# Altium footprint library KEYSTONE_1042.PcbLib: 1 footprints
Each footprint in its own frame and in the unit in brackets; x right, y up, seen from the top. Pads: shape width x height; smd on the part's side, far side on the other; paste and mask are expansions set on the pad; w line width, h text height; cw(c..) or ccw(c..) is an arc to the next point about the centre after c.
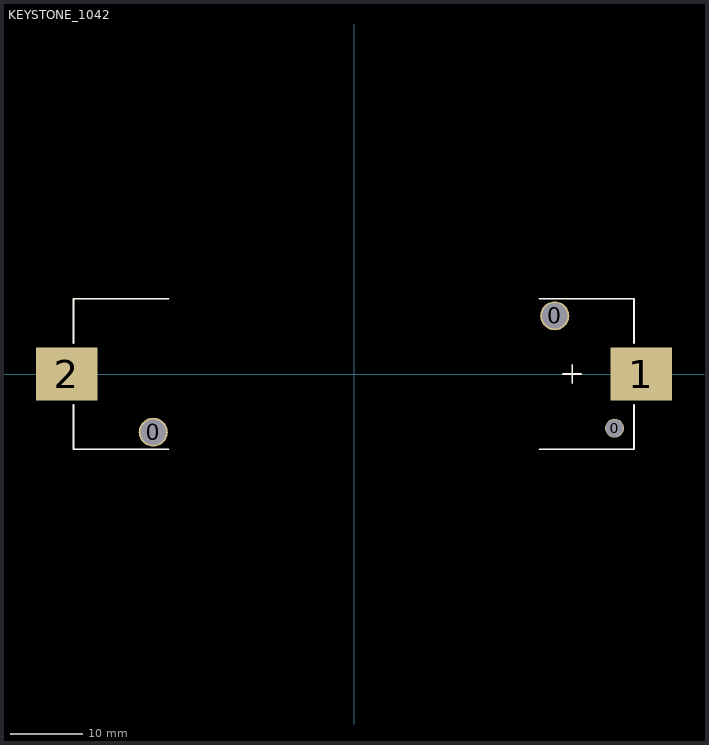
[diagram p0: the footprint, top view; thin cyan lines are the x and y axes]

## KEYSTONE_1042 [mm]
pads (5):
  round 4 hole 3.5: 0(-27.6,-8) 0(27.6,8)
  round 2.6 hole 2.4: 0(35.82,-7.45)
  rect 8.5x7.35 smd: 1(39.5,0) 2(-39.5,0)
Top Overlay:
  lines w0.25: -38.55,-4.25 -38.55,-10.35 -25.5,-10.35 ; -38.55,4.25 -38.55,10.35 -25.5,10.35 ; 25.5,-10.35 38.5,-10.35 38.5,-4.25 ; 25.5,10.35 38.5,10.35 38.5,4.25 ; 28.75,0 31.25,0 ; 30,-1.25 30,1.25
3D body: height 14.86, standoff 0, extent -38.55,-10.3 38.5,10.35